# Altium schematic symbol library Push Button.SchLib: 2 symbols
Pins are listed as number, name and electrical type; pins without a type are passive.

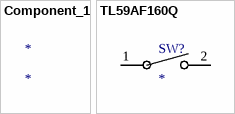
[diagram p0: symbols Component_1 to TL59AF160Q]

## Component_1
designator *

## TL59AF160Q
designator SW?
No Description Available; Mfr_Name: E-Switch
footprint SW_TL59AF160Q_EWI
pins: 1, 2